# EAGLE library part 23K256T-I/ST (library Memory)
IC SRAM 256K SPI 20MHZ 8TSSOP Manufacturer's datasheet <http://ww1.microchip.com/downloads/en/DeviceDoc/22100F.pdf>
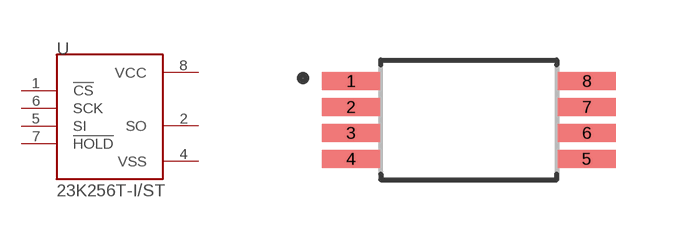
[diagram p23: symbol with the pads of TSSOP8; footprint TSSOP8]

Designator prefix U

## 23K256T-I/ST (CREATED_BY: PCBLayout.com; DIGIKEY_PARTNO: 23K256T-I/STCT-ND; MANUFACTURER: Microchip Technology; MPN: 23K256T-I/ST; PACKAGE: 8TSSOP)  [TSSOP8]
1  !CS  in
2  SO  out
4  VSS  pwr
5  SI  in
6  SCK  in
7  !HOLD  in
8  VCC  pwr

## Footprint TSSOP8 (pad centres in mm)
smd 1.45 x 0.45: 1 -2.95,0.975; 2 -2.95,0.325; 3 -2.95,-0.325; 4 -2.95,-0.975; 5 2.95,-0.975; 6 2.95,-0.325; 7 2.95,0.325; 8 2.95,0.975